# Altium schematic symbol library ProjecrSchematicLibrary.SchLib: 8 symbols
Pins are listed as number, name and electrical type; pins without a type are passive.

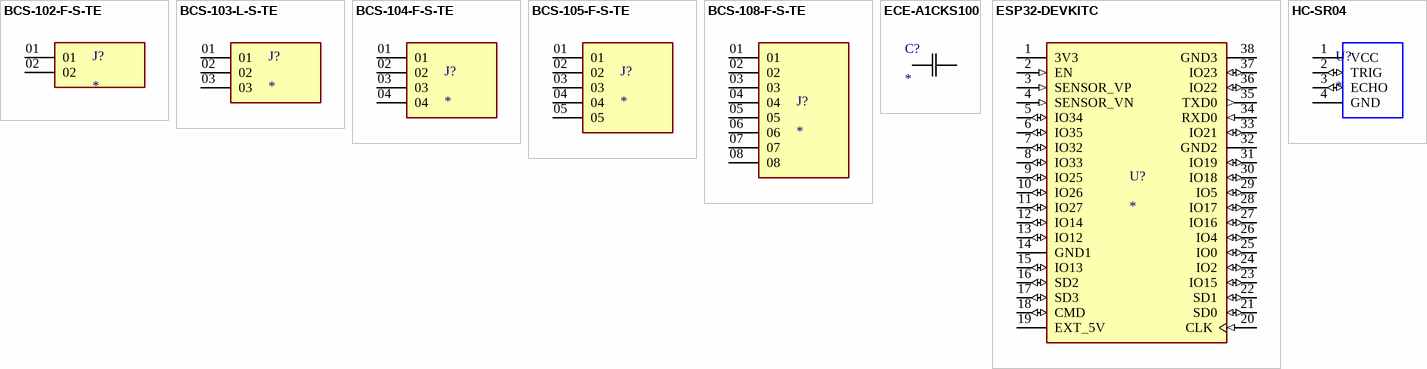
[diagram p0: symbols BCS-102-F-S-TE to HC-SR04]

## BCS-102-F-S-TE
designator J?
MP: BCS-102-F-S-TE; MF: Samtec Inc.; Value: *; Availability: Unavailable; Package: None; Price: None
footprint SAMTEC_BCS-102-F-S-TE
pins: 01, 02

## BCS-103-L-S-TE
designator J?
MF: Samtec; MP: BCS-103-L-S-TE; Package: None; Price: None; Value: *; Availability: Unavailable
footprint SAMTEC_BCS-103-L-S-TE
pins: 01, 02, 03

## BCS-104-F-S-TE
designator J?
4 Position Receptacle Connector 0.100 (2.54mm) Through Hole Gold; MF: Samtec; MP: BCS-104-F-S-TE; Digi-Key_Part_Number: BCS-104-F-S-TE-ND; Check_prices: https://www.snapeda.com/parts/BCS-104-F-S-TE/Samtec/view-part/?ref=eda; SnapEDA_Link: https://www.snapeda.com/parts/BCS-104-F-S-TE/Samtec/view-part/?ref=snap; Purchase-URL: https://pricing.snapeda.com/search/part/BCS-104-F-S-TE/?ref=eda; Package: None; Value: *
footprint SAMTEC_BCS-104-F-S-TE
pins: 01, 02, 03, 04

## BCS-105-F-S-TE
designator J?
MF: Samtec; MP: BCS-105-F-S-TE; Package: None; Price: None; Value: *; Availability: Unavailable
footprint SAMTEC_BCS-105-F-S-TE
pins: 01, 02, 03, 04, 05

## BCS-108-F-S-TE
designator J?
MF: Samtec; MP: BCS-108-F-S-TE; Package: None; Price: None; Value: *; Availability: Unavailable
footprint SAMTEC_BCS-108-F-S-TE
pins: 01, 02, 03, 04, 05, 06, 07, 08

## ECE-A1CKS100
designator C?
No Description Available; Mfr_Name: Panasonic
footprint CAP_4 X 5_PAN
pins: 1, 2

## ESP32-DEVKITC
designator U?
ESP32-WROOM-32UE series Transceiver; 802.11 b/g/n (Wi-Fi, WiFi, WLAN), Bluetooth Â® Smart Ready 4.x Dual Mode Evaluation Board; MP: ESP32-DEVKITC; MF: Espressif Systems; Value: *; SnapEDA_Link: https://www.snapeda.com/parts/ESP32-DEVKITC/Espressif+Systems/view-part/?ref=snap; Purchase-URL: https://pricing.snapeda.com/search/part/ESP32-DEVKITC/?ref=eda; Check_prices: https://www.snapeda.com/parts/ESP32-DEVKITC/Espressif+Systems/view-part/?ref=eda; Availability: In Stock; Price: None; Package: None
footprint MODULE_ESP32-DEVKITC - duplicate
pins: 1 3V3 (power), 2 EN (in), 3 SENSOR_VP (in), 4 SENSOR_VN (in), 5 IO34 (io), 6 IO35 (io), 7 IO32 (io), 8 IO33 (io), 9 IO25 (io), 10 IO26 (io), 11 IO27 (io), 12 IO14 (io), 13 IO12 (io), 14 GND1 (power), 15 IO13 (io), 16 SD2 (io), 17 SD3 (io), 18 CMD (io), 19 EXT_5V (power), 20 CLK (in), 21 SD0 (io), 22 SD1 (io), 23 IO15 (io), 24 IO2 (io), 25 IO0 (io), 26 IO4 (io), 27 IO16 (io), 28 IO17 (io), 29 IO5 (io), 30 IO18 (io), 31 IO19 (io), 32 GND2 (power), 33 IO21 (io), 34 RXD0 (in), 35 TXD0 (out), 36 IO22 (io), 37 IO23 (io), 38 GND3 (power)

## HC-SR04
designator U?
Ultrasonic Sensor Module; MP: HC-SR04; Availability: Unavailable; Value: *; Price: None; Package: None
footprint XCVR_HC-SR04
pins: 1 VCC (power), 2 TRIG (io), 3 ECHO (io), 4 GND (power)